# Altium schematic symbol library Res_Panasonic_453Ohm_ERA-6AEB4530V.SchLib: 1 symbol
Pins are listed as number, name and electrical type; pins without a type are passive.

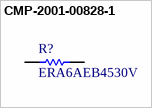
[diagram p0: symbol CMP-2001-00828-1]

## CMP-2001-00828-1
designator R?, comment ERA6AEB4530V
Manufacturer: Panasonic; Part Number: ERA6AEB4530V
footprint RESC2013X60X40NL20T25 (Chip Resistor, 2-Leads, Body 2.00x1.25mm, IPC Medium Density)
pins: 1, 2
1 alternate drawing of the same symbol